# Altium footprint library USB Connector.PcbLib: 1 footprints
Each footprint in its own frame and in the unit in brackets; x right, y up, seen from the top. Pads: shape width x height; smd on the part's side, far side on the other; paste and mask are expansions set on the pad; w line width, h text height; cw(c..) or ccw(c..) is an arc to the next point about the centre after c.
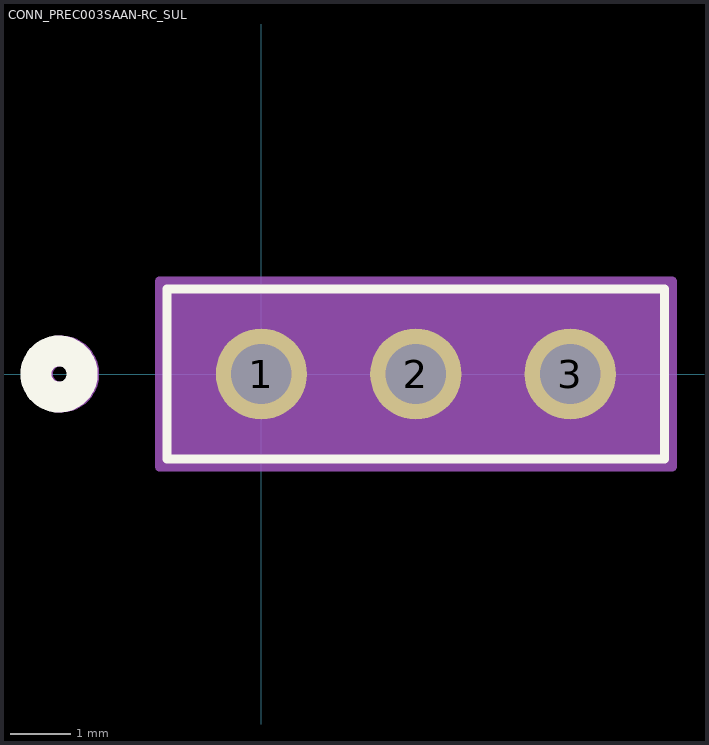
[diagram p0: the footprint, top view; thin cyan lines are the x and y axes]

## CONN_PREC003SAAN-RC_SUL [mil]
pads (3):
  round 59 / inner round 60 / far side round 59 hole 39 paste-99999 mask+0: 1(0,0) 2(100,0) 3(200,0)
Top Overlay:
  circle w20: c-131,0 r15
  lines w6: -61,-55 -61,55 261,55 261,-55 -61,-55
Bottom Overlay:
  circle w20: c-131,0 r15
Mechanical 13:
  circle w20: c-130,0 r15
  lines w1: -56,-50 -56,50 256,50 256,-50 -56,-50
Mechanical 15:
  region: 266,60 -66,60 -66,-60 266,-60
  lines w6: -66,-60 266,-60 266,60 -66,60 -66,-60